# Altium schematic symbol library PBO-5C.SchLib: 1 symbol
Pins are listed as number, name and electrical type; pins without a type are passive.

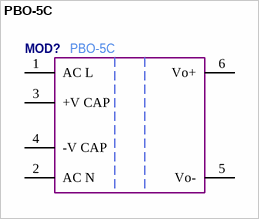
[diagram p0: symbol PBO-5C]

## PBO-5C
designator MOD?  Manufacturer Part Number: PBO-5C  (hidden comment: *)
pins: 1 AC L, 2 AC N, 3 +V CAP, 4 -V CAP, 5 Vo-, 6 Vo+